# Altium footprint library Test Points.PcbLib: 2 footprints
Each footprint in its own frame and in the unit in brackets; x right, y up, seen from the top. Pads: shape width x height; smd on the part's side, far side on the other; paste and mask are expansions set on the pad; w line width, h text height; cw(c..) or ccw(c..) is an arc to the next point about the centre after c.
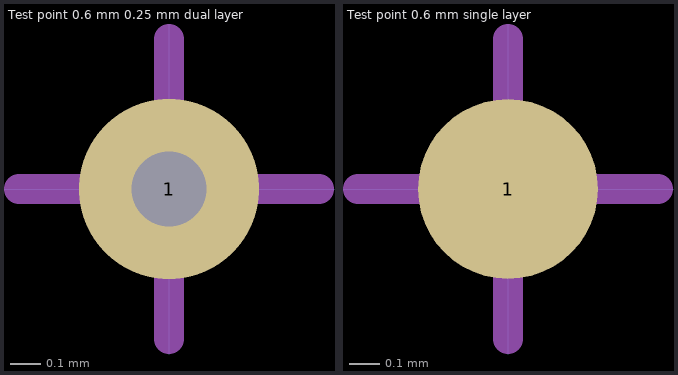
[diagram p0: the footprints below, top view; thin cyan lines are the x and y axes]

## Test point 0.6 mm 0.25 mm dual layer [mm]
pads (1):
  round 0.6 smd paste-0.3: 1(0,0)
via 0,0 diameter 0.6 hole 0.25
Mechanical 15:
  lines w0.1: -0.5,0 0.5,0 ; 0,-0.5 0,0.5

## Test point 0.6 mm single layer [mm]
pads (1):
  round 0.6 smd paste-0.3: 1(0,0)
Mechanical 15:
  lines w0.1: -0.5,0 0.5,0 ; 0,-0.5 0,0.5